# Altium footprint library LMH6629.PcbLib: 3 footprints
Each footprint in its own frame and in the unit in brackets; x right, y up, seen from the top. Pads: shape width x height; smd on the part's side, far side on the other; paste and mask are expansions set on the pad; w line width, h text height; cw(c..) or ccw(c..) is an arc to the next point about the centre after c.
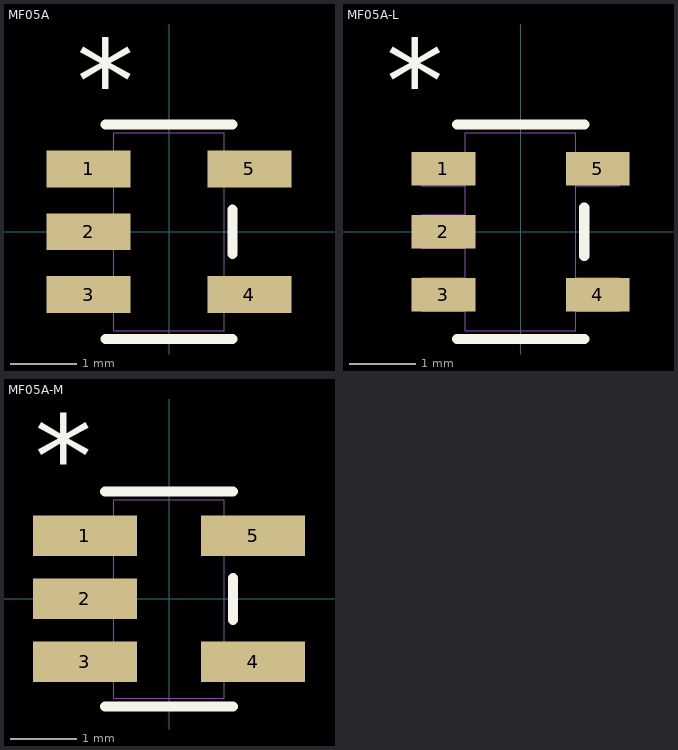
[diagram p0: the footprints below, top view; thin cyan lines are the x and y axes]

## MF05A [mil]
pads (5):
  rect 50x22 smd: 1(-48,37.5) 2(-48,0) 3(-48,-37.5) 4(48,-37.5) 5(48,37.5)
Top Overlay:
  lines w6: -38,-64 38,-64 ; -38,64 38,64 ; 38,-13.4 38,13.4
  text "*" at -55,65 h50
Mechanical 1:
  lines w0: -59,-47.5 -33,-47.5 -33,-27.5 -59,-27.5 -59,-47.5 ; -59,-10 -33,-10 -33,10 -59,10 -59,-10 ; -59,27.5 -33,27.5 -33,47.5 -59,47.5 -59,27.5 ; -33,-59 -33,59 33,59 33,-59 -33,-59 ; 33,-47.5 59,-47.5 59,-27.5 33,-27.5 33,-47.5 ; 33,27.5 59,27.5 59,47.5 33,47.5 33,27.5
  text "*" at -55,65 h50

## MF05A-L [mil]
pads (5):
  rect 38x20 smd: 1(-46,37.5) 2(-46,0) 3(-46,-37.5) 4(46,-37.5) 5(46,37.5)
Top Overlay:
  lines w6: -38,-64 38,-64 ; -38,64 38,64 ; 38,-14.4 38,14.4
  text "*" at -80,65 h50
Mechanical 1:
  lines w0: -59,-47.5 -59,-27.5 -33,-27.5 -33,-47.5 -59,-47.5 ; -59,-10 -59,10 -33,10 -33,-10 -59,-10 ; -59,27.5 -59,47.5 -33,47.5 -33,27.5 -59,27.5 ; -33,-59 33,-59 33,59 -33,59 -33,-59 ; 33,-47.5 33,-27.5 59,-27.5 59,-47.5 33,-47.5 ; 33,27.5 33,47.5 59,47.5 59,27.5 33,27.5
  text "*" at -80,65 h50

## MF05A-M [mil]
pads (5):
  rect 62x24 smd: 1(-50,37.5) 2(-50,0) 3(-50,-37.5) 4(50,-37.5) 5(50,37.5)
Top Overlay:
  lines w6: -38,-64 38,-64 ; -38,64 38,64 ; 38,-12.4 38,12.4
  text "*" at -80,60 h50
Mechanical 1:
  lines w0: -59,-47.5 -33,-47.5 -33,-27.5 -59,-27.5 -59,-47.5 ; -59,-10 -33,-10 -33,10 -59,10 -59,-10 ; -59,27.5 -33,27.5 -33,47.5 -59,47.5 -59,27.5 ; -33,-59 -33,59 33,59 33,-59 -33,-59 ; 33,-47.5 59,-47.5 59,-27.5 33,-27.5 33,-47.5 ; 33,27.5 59,27.5 59,47.5 33,47.5 33,27.5
  text "*" at -80,60 h50